# EAGLE library part YAC512 (library OPL3)
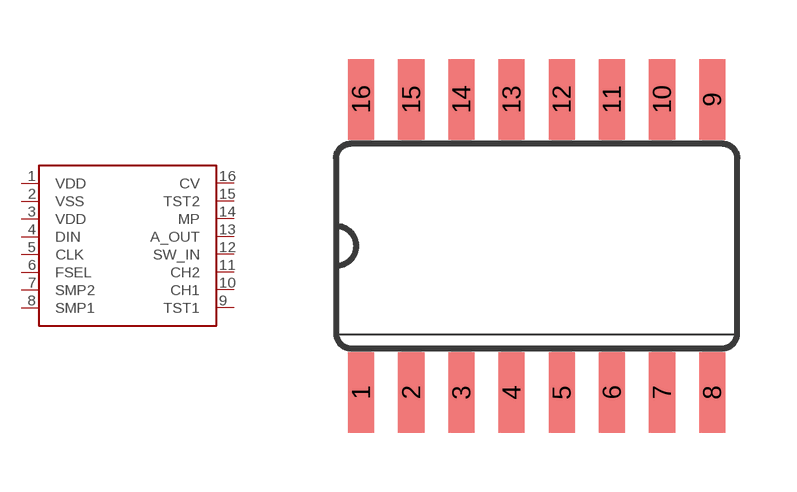
[diagram p1: symbol with the pads of 16SOP; footprint 16SOP]

Designator prefix -

## YAC512  [16SOP]
1  VDD
2  VSS
3  VDD
4  DIN
5  CLK
6  FSEL
7  SMP2
8  SMP1
9  TST1
10  CH1
11  CH2
12  SW_IN
13  A_OUT
14  MP
15  TST2
16  CV

## Footprint 16SOP (pad centres in mm)
smd 0.66 x 2.032: 1 -4.445,-3.708; 2 -3.175,-3.708; 3 -1.905,-3.708; 4 -0.635,-3.708; 5 0.635,-3.708; 6 1.905,-3.708; 7 3.175,-3.708; 8 4.445,-3.708; 9 4.445,3.708; 10 3.175,3.708; 11 1.905,3.708; 12 0.635,3.708; 13 -0.635,3.708; 14 -1.905,3.708; 15 -3.175,3.708; 16 -4.445,3.708